# Altium schematic symbol library DMN3069L-7.Schlib: 1 symbol
Pins are listed as number, name and electrical type; pins without a type are passive.

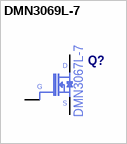
[diagram p0: symbol DMN3069L-7]

## DMN3069L-7
designator Q?, comment Manufacturer Part Number: DMN3067L-7  (hidden comment: DMN3404L-7)
pins: 1 G, 2 S, 3 D